# EAGLE library part 418317270907 (library EAGLE-TACT_SWITCHES-rev16e)
WS-PT 2.54 mm piano type compact THT Dip Switch with raised actuator, 7 Pole
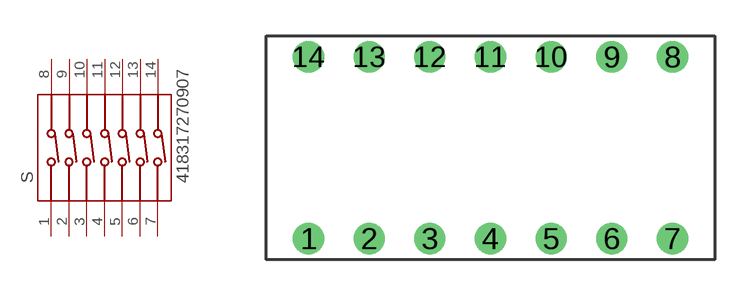
[diagram p60: symbol with the pads of 418317270907; footprint 418317270907]

Designator prefix S

## 418317270907  [418317270907]
1  1  pas
2  2  pas
3  3  pas
4  4  pas
5  5  pas
6  6  pas
7  7  pas
8  A1  pas
9  A2  pas
10  A3  pas
11  A4  pas
12  A5  pas
13  A6  pas
14  A7  pas

## Footprint 418317270907 (pad centres in mm)
WS-PT 2.54 mm piano type compact THT Dip Switch with raised actuator, 7 Pole
drill 0.8: 1 -7.62,-3.81; 2 -5.08,-3.81; 3 -2.54,-3.81; 4 0,-3.81; 5 2.54,-3.81; 6 5.08,-3.81; 7 7.62,-3.81; 8 7.62,3.81; 9 5.08,3.81; 10 2.54,3.81; 11 0,3.81; 12 -2.54,3.81; 13 -5.08,3.81; 14 -7.62,3.81